# EAGLE library part MACETECH_AVRISP_POGO (library RGBShadesControllerV30)
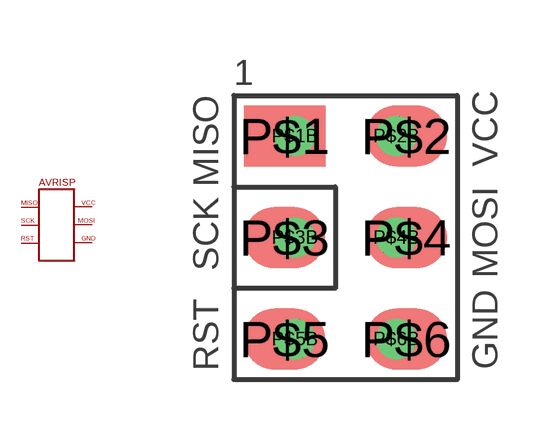
[diagram p0: symbol with the pads of MACETECH_AVRISP_POGO; footprint MACETECH_AVRISP_POGO]

Designator prefix -

## MACETECH_AVRISP_POGO  [MACETECH_AVRISP_POGO]
P$1  P$1
P$1B  P$1
P$2  P$2
P$2B  P$2
P$3  P$3
P$3B  P$3
P$4  P$4
P$4B  P$4
P$5  P$5
P$5B  P$5
P$6  P$6
P$6B  P$6

## Footprint MACETECH_AVRISP_POGO (pad centres in mm)
smd 2.032 x 1.524: P$1 -1.524,2.54; P$2 1.524,2.54; P$3 -1.524,0; P$4 1.524,0; P$5 -1.524,-2.54; P$6 1.524,-2.54
drill 0.5: P$1B -1.27,2.54; P$2B 1.27,2.54; P$3B -1.27,0; P$4B 1.27,0; P$5B -1.27,-2.54; P$6B 1.27,-2.54